# EAGLE library part USB3340-EZK-TR (library USB3340-EZK-TR)
Microchip USB3340-EZK-TR, USB Transceiver, USB 2.0 at 480Mbit/s, 5.5 V, 32-Pin QFN Source: Datasheet <http://www.microchip.com/mymicrochip/filehandler.aspx?ddocname=en567926>
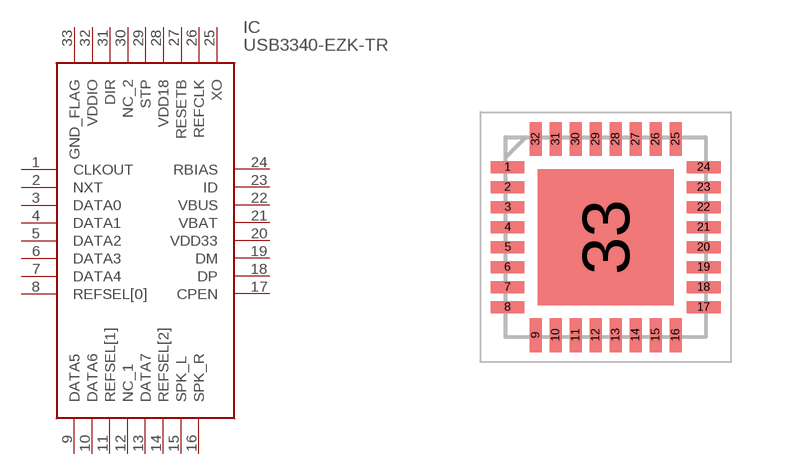
[diagram p0: symbol with the pads of QFN50P500X500X100-33N; footprint QFN50P500X500X100-33N]

Designator prefix IC

## USB3340-EZK-TR (Description: Microchip USB3340-EZK-TR, USB Transceiver, USB 2.0 at 480Mbit/s, 5.5 V, 32-Pin QFN; Height: 1mm; Manufacturer_Name: Microchip; Manufacturer_Part_Number: USB3340-EZK-TR; Mouser_Part_Number: 886-USB3340-EZK-TR; Mouser_Price-Stock: https://www.mouser.co.uk/ProductDetail/Microchip-Technology/USB3340-EZK-TR?qs=pA5MXup5wxES2TIeidc1qQ%3D%3D)  [QFN50P500X500X100-33N]
1  CLKOUT
2  NXT
3  DATA0
4  DATA1
5  DATA2
6  DATA3
7  DATA4
8  REFSEL[0]
9  DATA5
10  DATA6
11  REFSEL[1]
12  NC_1
13  DATA7
14  REFSEL[2]
15  SPK_L
16  SPK_R
17  CPEN
18  DP
19  DM
20  VDD33
21  VBAT
22  VBUS
23  ID
24  RBIAS
25  XO
26  REFCLK
27  RESETB
28  VDD18
29  STP
30  NC_2
31  DIR
32  VDDIO
33  GND_FLAG

## Footprint QFN50P500X500X100-33N (pad centres in mm)
32 Pin QFN
smd 0.85 x 0.3: 1 -2.45,1.75; 2 -2.45,1.25; 3 -2.45,0.75; 4 -2.45,0.25; 5 -2.45,-0.25; 6 -2.45,-0.75; 7 -2.45,-1.25; 8 -2.45,-1.75; 17 2.45,-1.75; 18 2.45,-1.25; 19 2.45,-0.75; 20 2.45,-0.25; 21 2.45,0.25; 22 2.45,0.75; 23 2.45,1.25; 24 2.45,1.75
smd 0.3 x 0.85: 9 -1.75,-2.45; 10 -1.25,-2.45; 11 -0.75,-2.45; 12 -0.25,-2.45; 13 0.25,-2.45; 14 0.75,-2.45; 15 1.25,-2.45; 16 1.75,-2.45; 25 1.75,2.45; 26 1.25,2.45; 27 0.75,2.45; 28 0.25,2.45; 29 -0.25,2.45; 30 -0.75,2.45; 31 -1.25,2.45; 32 -1.75,2.45
smd 3.4 x 3.4: 33 0,0